# Altium schematic symbol library TDK Corporation.SchLib: 3 symbols
Pins are listed as number, name and electrical type; pins without a type are passive.

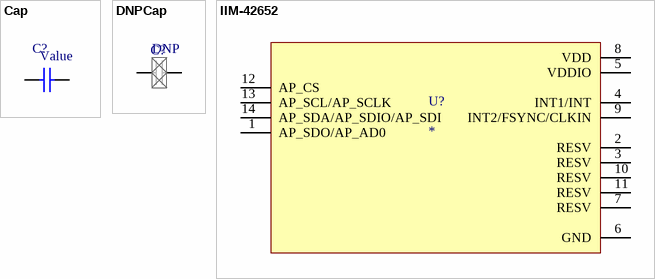
[diagram p0: symbols Cap to IIM-42652]

## Cap
designator C?  (value not drawn)
Value: Value
pins: 1, 2

## DNPCap
designator C?, comment DNP  (no BOM)
Capacitor; Value: DNP
simulation model CAP (Capacitor)
signal-integrity model Cap
pins: 1, 2

## IIM-42652
designator U?
pins: 1 AP_SDO/AP_AD0, 2 RESV, 3 RESV, 4 INT1/INT, 5 VDDIO (power), 6 GND (power), 7 RESV, 8 VDD (power), 9 INT2/FSYNC/CLKIN, 10 RESV, 11 RESV, 12 AP_CS, 13 AP_SCL/AP_SCLK, 14 AP_SDA/AP_SDIO/AP_SDI